# Altium schematic symbol library MAX9700.SchLib: 1 symbol
Pins are listed as number, name and electrical type; pins without a type are passive.

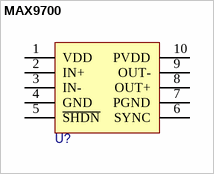
[diagram p0: symbol MAX9700]

## MAX9700
designator U?
pins: 1 VDD, 2 IN+, 3 IN-, 4 GND, 5 ~{SHDN}, 6 SYNC, 7 PGND, 8 OUT+, 9 OUT-, 10 PVDD